# Altium schematic symbol library BTS716GB.SchLib: 1 symbol
Pins are listed as number, name and electrical type; pins without a type are passive.

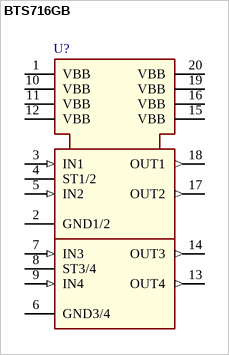
[diagram p0: symbol BTS716GB]

## BTS716GB
designator U?  (value not drawn)
Smart High-Side Power Switch, Four Channels: 4x140mOhm, Status Feedback, VBB 43V; Manufacturer: Infineon Technologies; ManufacturerPartNumber: BTS716GB; PackageReference: PG-DSO-20
footprint SOIC127P1030X265-20N-1
pins: 1 VBB (power) "Positive Power Supply Voltage", 2 GND1/2 (power) "Ground", 3 IN1 (in) "Input", 4 ST1/2 (oc) "Diagnostic Feedback", 5 IN2 (in) "Input", 6 GND3/4 (power) "Ground", 7 IN3 (in) "Input", 8 ST3/4 (oc) "Diagnostic Feedback", 9 IN4 (in) "Input", 10 VBB (power) "Positive Power Supply Voltage", 11 VBB (power) "Positive Power Supply Voltage", 12 VBB (power) "Positive Power Supply Voltage", 13 OUT4 (out) "Output", 14 OUT3 (out) "Output", 15 VBB (power) "Positive Power Supply Voltage", 16 VBB (power) "Positive Power Supply Voltage", 17 OUT2 (out) "Output", 18 OUT1 (out) "Output", 19 VBB (power) "Positive Power Supply Voltage", 20 VBB (power) "Positive Power Supply Voltage"